# Altium schematic symbol library SCH - CONNECTORS - Molex 0475710001.SchLib: 1 symbol
Pins are listed as number, name and electrical type; pins without a type are passive.

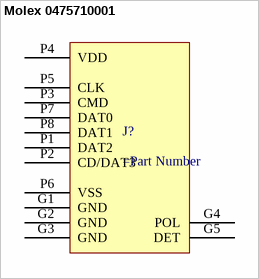
[diagram p0: symbol Molex 0475710001]

## Molex 0475710001
designator J?
pins: G1 GND, G2 GND, G3 GND, G4 POL, G5 DET, P1 DAT2, P2 CD/DAT3, P3 CMD, P4 VDD, P5 CLK, P6 VSS, P7 DAT0, P8 DAT1